# EAGLE library part LT3115 (library LT3115)
Buck-Boost DC/DC, 40V, 2A
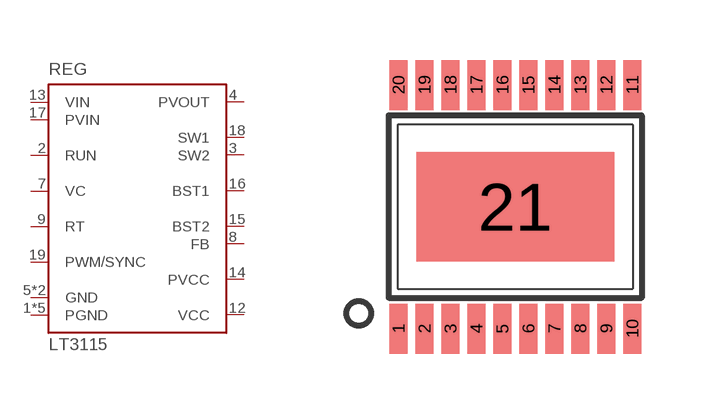
[diagram p0: symbol with the pads of TSSOP20EX; footprint TSSOP20EX]

Designator prefix REG

## LT3115  [TSSOP20EX]
1  PGND  pwr
2  RUN  in
3  SW2
4  PVOUT
5  GND  pwr
6  GND  pwr
7  VC  pas
8  FB  in
9  RT  pas
10  PGND  pwr
11  PGND  pwr
12  VCC
13  VIN  in
14  PVCC  in
15  BST2  in
16  BST1  in
17  PVIN  in
18  SW1
19  PWM/SYNC  in
20  PGND  pwr
21  PGND  pwr

## Footprint TSSOP20EX (pad centres in mm)
TSSOP20 EX PAD
smd 0.45 x 1.25: 1 -2.907,-3.02; 2 -2.257,-3.02; 3 -1.607,-3.02; 4 -0.957,-3.02; 5 -0.307,-3.02; 6 0.343,-3.02; 7 0.993,-3.02; 8 1.643,-3.02; 9 2.293,-3.02; 10 2.943,-3.02; 11 2.943,3.08; 12 2.293,3.08; 13 1.643,3.08; 14 0.993,3.08; 15 0.343,3.08; 16 -0.307,3.08; 17 -0.957,3.08; 18 -1.607,3.08; 19 -2.257,3.08; 20 -2.907,3.08
smd 4.95 x 2.74: 21 0.018,0.032